# Altium schematic symbol library NFM18CC101R1C3D.SchLib: 1 symbol
Pins are listed as number, name and electrical type; pins without a type are passive.

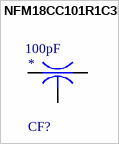
[diagram p0: symbol NFM18CC101R1C3D]

## NFM18CC101R1C3D
designator CF?  Capacitance: 100pF
Large Current 3 Terminals Low ESL Chip Multilayer Ceramic Capacitors for General Purpose, 0603, 100pF, 20%, 16V; Max Current Rating: 500mA; Insulation Resistance: 1GR; DC Resistance (DCR): 300mR; Case Code (Imperial): 0603; REACH SVHC: No SVHC; Max Operating Temperature: 125°C; Height: 0.6mm; Tolerance: 20%; Voltage: 16V; Case/Package: 0603; Radiation Hardening: No; Min Operating Temperature: -55°C; Max Voltage Rating (DC): 16V; Package Quantity: 4000; Termination: Flat; Length: 1.6mm; Current: 500mA; Mount: Surface Mount; Width: 0.8mm; Depth: 0.8mm; Voltage Rating (DC): 16V; Case Code (Metric): 1608; Packaging: Tape and Reel; Lead Free: Lead Free; Current Rating: 500mA
footprint FP-NFM18-0_1-e0_15_0_35-MFG
pins: 1 Input, 2 GND, 3 Output